# EAGLE library part DSPIC33EPXXMU806 (library icnh)
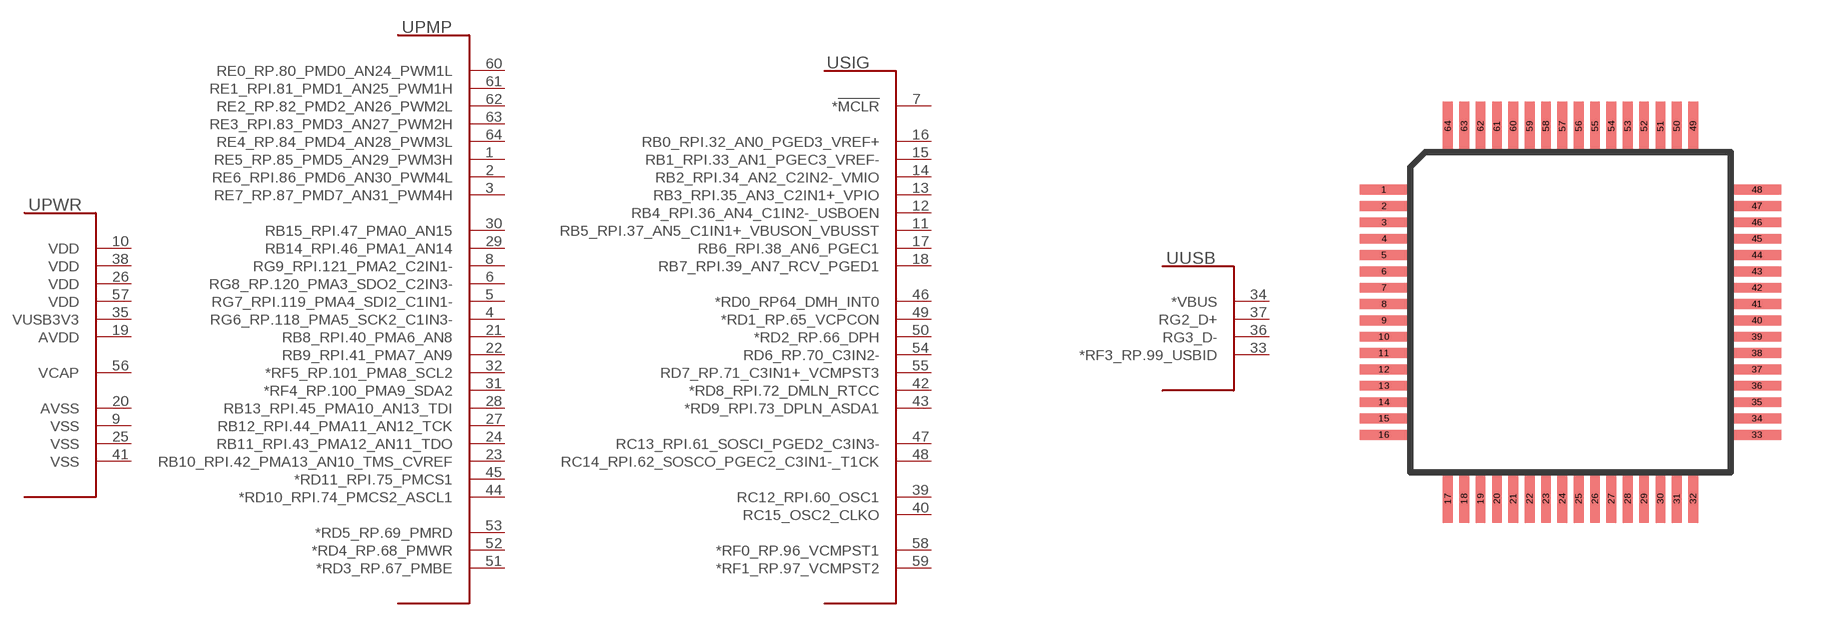
[diagram p6: symbol with the pads of TQFP64; footprint TQFP64]

Designator prefix U; gates PWR=MCU_MU806_PWR PMP=MCU_MU806_PMP SIG=MCU_MU806_SIG USB=MCU_MU806_USB

## DSPIC33EPXXMU806  [TQFP64]
1  PMP:RE5_RP.85_PMD5_AN29_PWM3H
2  PMP:RE6_RPI.86_PMD6_AN30_PWM4L
3  PMP:RE7_RP.87_PMD7_AN31_PWM4H
4  PMP:RG6_RP.118_PMA5_SCK2_C1IN3-
5  PMP:RG7_RPI.119_PMA4_SDI2_C1IN1-
6  PMP:RG8_RP.120_PMA3_SDO2_C2IN3-
7  SIG:*!MCLR!
8  PMP:RG9_RPI.121_PMA2_C2IN1-
9  PWR:VSS
10  PWR:VDD
11  SIG:RB5_RPI.37_AN5_C1IN1+_VBUSON_VBUSST
12  SIG:RB4_RPI.36_AN4_C1IN2-_USBOEN
13  SIG:RB3_RPI.35_AN3_C2IN1+_VPIO
14  SIG:RB2_RPI.34_AN2_C2IN2-_VMIO
15  SIG:RB1_RPI.33_AN1_PGEC3_VREF-
16  SIG:RB0_RPI.32_AN0_PGED3_VREF+
17  SIG:RB6_RPI.38_AN6_PGEC1
18  SIG:RB7_RPI.39_AN7_RCV_PGED1
19  PWR:AVDD
20  PWR:AVSS
21  PMP:RB8_RPI.40_PMA6_AN8
22  PMP:RB9_RPI.41_PMA7_AN9
23  PMP:RB10_RPI.42_PMA13_AN10_TMS_CVREF
24  PMP:RB11_RPI.43_PMA12_AN11_TDO
25  PWR:VSS
26  PWR:VDD
27  PMP:RB12_RPI.44_PMA11_AN12_TCK
28  PMP:RB13_RPI.45_PMA10_AN13_TDI
29  PMP:RB14_RPI.46_PMA1_AN14
30  PMP:RB15_RPI.47_PMA0_AN15
31  PMP:*RF4_RP.100_PMA9_SDA2
32  PMP:*RF5_RP.101_PMA8_SCL2
33  USB:*RF3_RP.99_USBID
34  USB:*VBUS
35  PWR:VUSB3V3
36  USB:RG3_D-
37  USB:RG2_D+
38  PWR:VDD
39  SIG:RC12_RPI.60_OSC1
40  SIG:RC15_OSC2_CLKO
41  PWR:VSS
42  SIG:*RD8_RPI.72_DMLN_RTCC
43  SIG:*RD9_RPI.73_DPLN_ASDA1
44  PMP:*RD10_RPI.74_PMCS2_ASCL1
45  PMP:*RD11_RPI.75_PMCS1
46  SIG:*RD0_RP64_DMH_INT0
47  SIG:RC13_RPI.61_SOSCI_PGED2_C3IN3-
48  SIG:RC14_RPI.62_SOSCO_PGEC2_C3IN1-_T1CK
49  SIG:*RD1_RP.65_VCPCON
50  SIG:*RD2_RP.66_DPH
51  PMP:*RD3_RP.67_PMBE
52  PMP:*RD4_RP.68_PMWR
53  PMP:*RD5_RP.69_PMRD
54  SIG:RD6_RP.70_C3IN2-
55  SIG:RD7_RP.71_C3IN1+_VCMPST3
56  PWR:VCAP
57  PWR:VDD
58  SIG:*RF0_RP.96_VCMPST1
59  SIG:*RF1_RP.97_VCMPST2
60  PMP:RE0_RP.80_PMD0_AN24_PWM1L
61  PMP:RE1_RPI.81_PMD1_AN25_PWM1H
62  PMP:RE2_RP.82_PMD2_AN26_PWM2L
63  PMP:RE3_RPI.83_PMD3_AN27_PWM2H
64  PMP:RE4_RP.84_PMD4_AN28_PWM3L

## Footprint TQFP64 (pad centres in mm)
smd 1.5 x 0.3: 1 -5.7,3.75; 2 -5.7,3.25; 3 -5.7,2.75; 4 -5.7,2.25; 5 -5.7,1.75; 6 -5.7,1.25; 7 -5.7,0.75; 8 -5.7,0.25; 9 -5.7,-0.25; 10 -5.7,-0.75; 11 -5.7,-1.25; 12 -5.7,-1.75; 13 -5.7,-2.25; 14 -5.7,-2.75; 15 -5.7,-3.25; 16 -5.7,-3.75; 33 5.7,-3.75; 34 5.7,-3.25; 35 5.7,-2.75; 36 5.7,-2.25; 37 5.7,-1.75; 38 5.7,-1.25; 39 5.7,-0.75; 40 5.7,-0.25; 41 5.7,0.25; 42 5.7,0.75; 43 5.7,1.25; 44 5.7,1.75; 45 5.7,2.25; 46 5.7,2.75; 47 5.7,3.25; 48 5.7,3.75
smd 0.3 x 1.5: 17 -3.75,-5.7; 18 -3.25,-5.7; 19 -2.75,-5.7; 20 -2.25,-5.7; 21 -1.75,-5.7; 22 -1.25,-5.7; 23 -0.75,-5.7; 24 -0.25,-5.7; 25 0.25,-5.7; 26 0.75,-5.7; 27 1.25,-5.7; 28 1.75,-5.7; 29 2.25,-5.7; 30 2.75,-5.7; 31 3.25,-5.7; 32 3.75,-5.7; 49 3.75,5.7; 50 3.25,5.7; 51 2.75,5.7; 52 2.25,5.7; 53 1.75,5.7; 54 1.25,5.7; 55 0.75,5.7; 56 0.25,5.7; 57 -0.25,5.7; 58 -0.75,5.7; 59 -1.25,5.7; 60 -1.75,5.7; 61 -2.25,5.7; 62 -2.75,5.7; 63 -3.25,5.7; 64 -3.75,5.7